# Altium footprint library F主板_V0.PcbLib: 63 footprints (part 3 of 4)
Each footprint in its own frame and in the unit in brackets; x right, y up, seen from the top. Pads: shape width x height; smd on the part's side, far side on the other; paste and mask are expansions set on the pad; w line width, h text height; cw(c..) or ccw(c..) is an arc to the next point about the centre after c.
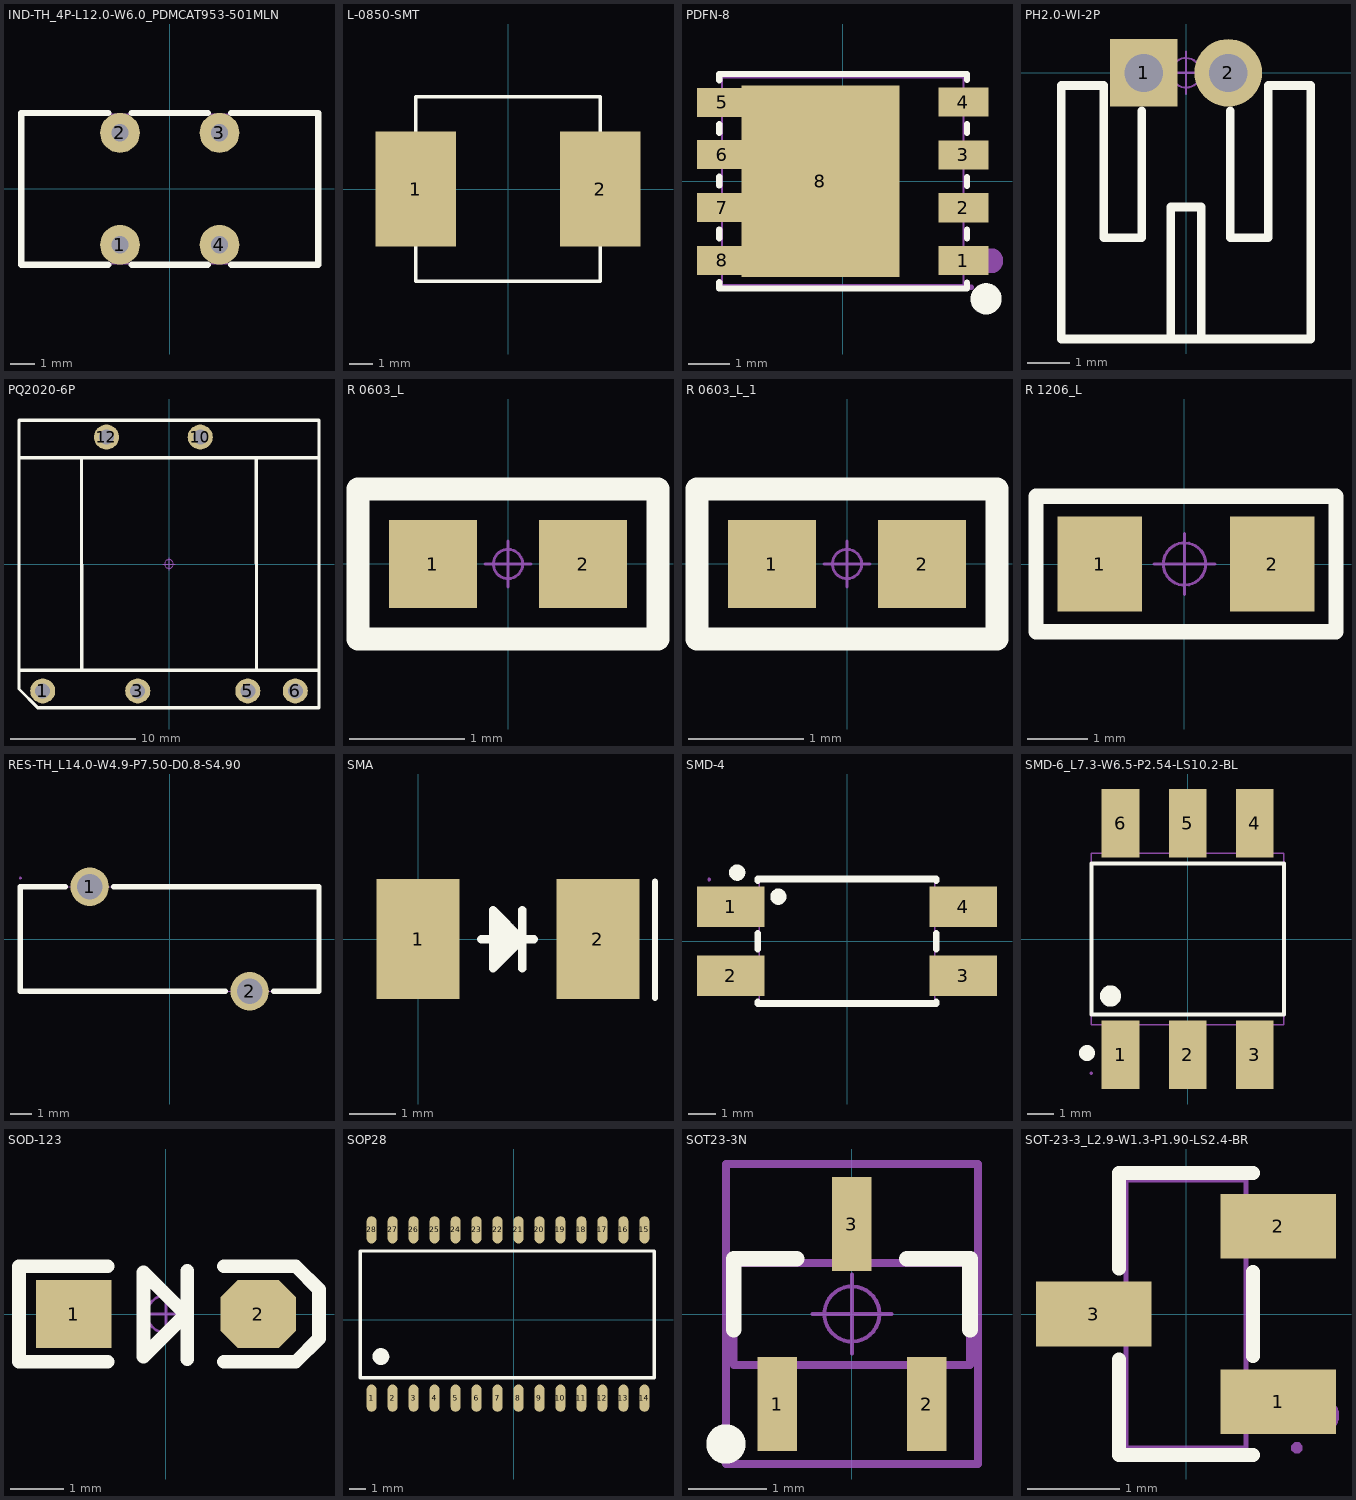
[diagram p2: the footprints below, top view; thin cyan lines are the x and y axes]

## IND-TH_4P-L12.0-W6.0_PDMCAT953-501MLN [mm]
pads (4):
  round 1.6 hole 0.7: 1(-2,-2.25) 2(-2,2.25) 3(2,2.25) 4(2,-2.25)
Top Overlay:
  lines w0.254: -2.477,-3.048 -5.969,-3.048 -5.969,3.048 -2.477,3.048 ; -1.523,-3.048 1.523,-3.048 ; -1.523,3.048 1.523,3.048 ; 2.477,-3.048 5.969,-3.048 5.969,3.048 2.477,3.048
Mechanical 15:
  region: -1.75,-2.25 -1.75,-2.201 -1.789,-2.109 -1.859,-2.04 -1.951,-2.002 -2.049,-2.002 -2.141,-2.04 -2.211,-2.109 -2.25,-2.201 -2.25,-2.25 -2.25,-2.3 -2.211,-2.391 -2.141,-2.461 -2.049,-2.498 -1.95,-2.498 -1.859,-2.46 -1.789,-2.391 -1.75,-2.299
  region: -1.75,2.25 -1.75,2.299 -1.789,2.391 -1.859,2.46 -1.951,2.498 -2.049,2.498 -2.141,2.46 -2.211,2.391 -2.25,2.299 -2.25,2.25 -2.25,2.2 -2.211,2.109 -2.141,2.039 -2.049,2.002 -1.95,2.002 -1.859,2.039 -1.789,2.109 -1.75,2.2
  region: 2.25,2.25 2.25,2.299 2.211,2.391 2.141,2.46 2.049,2.498 1.95,2.498 1.859,2.46 1.789,2.391 1.75,2.299 1.75,2.25 1.75,2.2 1.789,2.109 1.859,2.039 1.951,2.002 2.05,2.002 2.141,2.039 2.211,2.109 2.25,2.2
  region: 2.25,-2.25 2.25,-2.201 2.211,-2.109 2.141,-2.04 2.049,-2.002 1.95,-2.002 1.859,-2.04 1.789,-2.109 1.75,-2.201 1.75,-2.25 1.75,-2.3 1.789,-2.391 1.859,-2.461 1.951,-2.498 2.05,-2.498 2.141,-2.46 2.211,-2.391 2.25,-2.299
  region: -5.94,-3 -5.94,-2.975 -5.975,-2.94 -6.025,-2.94 -6.06,-2.975 -6.06,-3 -6.06,-3.025 -6.025,-3.06 -5.975,-3.06 -5.94,-3.025
  lines w0.051: -6,-3 6,-3 6,3 -6,3 -6,-3

## L-0850-SMT [mm]
pads (2):
  rect 3.5x5 smd: 1(-4,0) 2(4,0)
Top Overlay:
  lines w0.15: -4,-4 4,-4 4,4 -4,4 -4,-4

## PDFN-8 [mm]
pads (9):
  rect 1.2x0.7 smd paste-100 mask+0.05: 1(2.9,-1.905) 2(2.9,-0.635) 3(2.9,0.635) 4(2.9,1.905) 5(-2.9,1.9) 6(-2.9,0.64) 7(-2.9,-0.63) 8(-2.9,-1.9)
  rect 3.8x4.6 smd paste-100 mask+0.05: 8(-0.54,0)
Top Overlay:
  lines w0.15: -2.97,-2.58 2.99,-2.58 2.99,-2.434 ; -2.97,-2.57 -2.97,-2.429 ; -2.97,-1.371 -2.97,-1.159 ; -2.97,-0.101 -2.97,0.111 ; -2.97,1.169 -2.97,1.371 ; -2.97,2.429 -2.97,2.58 -2.94,2.58 2.99,2.58 2.99,2.434 ; 2.99,-1.376 2.99,-1.164 ; 2.99,-0.106 2.99,0.106 ; 2.99,1.164 2.99,1.376
  lines w0.5: 3.447,-2.95 cw(c3.449,-2.826) 3.45,-2.95
Top Paste:
  region: 2.3,1.555 2.3,2.255 3.5,2.255 3.5,1.555
  region: 2.3,0.285 2.3,0.985 3.5,0.985 3.5,0.285
  region: 2.3,-0.985 2.3,-0.285 3.5,-0.285 3.5,-0.985
  region: 2.3,-2.255 2.3,-1.555 3.5,-1.555 3.5,-2.255
  region: -3.501,-2.252 -3.501,-1.552 -2.438,-1.552 -2.438,-0.979 -3.501,-0.979 -3.501,-0.283 -2.443,-0.283 -2.443,0.289 -3.504,0.289 -3.504,0.994 -2.439,0.994 -2.439,1.546 -3.501,1.546 -3.501,2.243 -2.302,2.243 -2.302,2.301 1.356,2.301 1.356,-2.299 -2.25,-2.299 -2.25,-2.258 -2.268,-2.258
Mechanical 6:
  circle w0.3: c3.56,-1.91 r0.15
Mechanical 15:
  region: 2.45,1.695 2.45,2.115 3.05,2.115 3.05,1.695
  region: 2.45,0.425 2.45,0.845 3.05,0.845 3.05,0.425
  region: 2.45,-0.845 2.45,-0.425 3.05,-0.425 3.05,-0.845
  region: 2.45,-2.115 2.45,-1.695 3.05,-1.695 3.05,-2.115
  region: -2.3,-1.69 -2.3,-2.11 -3.05,-2.11 -3.05,-1.69
  region: -2.35,-2 -2.35,2 1.05,2 1.05,-2
  region: -2.3,-0.42 -2.3,-0.84 -3.05,-0.84 -3.05,-0.42
  region: -2.3,0.85 -2.3,0.43 -3.05,0.43 -3.05,0.85
  region: -2.3,2.11 -2.3,1.69 -3.05,1.69 -3.05,2.11
  region: 3.094,-2.49 3.069,-2.49 3.034,-2.525 3.034,-2.575 3.069,-2.61 3.094,-2.61 3.119,-2.61 3.154,-2.575 3.154,-2.525 3.119,-2.49
  lines w0.051: -2.9,-2.5 -2.9,2.5 2.9,2.5 2.9,-2.5 -2.9,-2.5

## PH2.0-WI-2P [mm] "长：5.9mm，宽：6mm，高：4.7mm"
height 10
pads (2):
  rect 1.6x1.6 hole 0.9: 1(-1,0)
  round 1.6 hole 0.9: 2(1,0)
Top Overlay:
  lines w0.203: -1.05,-0.9 -1.05,-3.9 -1.95,-3.9 -1.95,-3.3 -1.95,-0.3 -2,-0.3 -2.95,-0.3 -2.95,-6.3 2.95,-6.3 2.95,-0.3 2,-0.3 1.95,-0.3 1.95,-3.3 1.95,-3.9 1.05,-3.9 1.05,-0.9 ; -0.365,-6.215 -0.365,-3.175 0.365,-3.175 0.365,-6.215
Mechanical 15:
  circle w0.05: c0,0 r0.35
  lines w0.05: -0.5,0 0.5,0 ; 0,-0.5 0,0.5
3D body "PH2.0-WI-2P.STEP": height 4.75, standoff -2.65, extent -2.95,-6.3 2.95,0.3

## PQ2020-6P [mm] "高21mm，脚距2.5mm/3.8mm，"
height 0.5
pads (6):
  round 2 hole 1.2: 1(-10.1,-10.15) 3(-2.5,-10.15) 5(6.3,-10.15) 6(10.1,-10.15) 10(2.5,10.15) 12(-5,10.15)
Top Overlay:
  lines w0.254: -12,-8.5 12,-8.5 ; -12,8.5 12,8.5 ; -7,8.5 -6.98,-8.499 ; 6.98,8.499 7,-8.5 ; -12,-10 -12,11.5 12,11.5 12,-11.5 -10.5,-11.5 -12,-10
Mechanical 15:
  circle w0.05: c0,0 r0.35
  lines w0.05: -0.5,0 0.5,0 ; 0,-0.5 0,0.5
3D body "EPC17-10 5+5.STEP": height 9.75, standoff -3.15, extent -8.75,-8.1 8.75,8.1

## R 0603_L [mil] "1/10W贴片电阻"
height 19.68
pads (2):
  rect 30x30 smd: 1(-25.59,0) 2(25.59,0)
Top Overlay:
  lines w8: -51.18,-25.59 -51.18,25.59 51.18,25.59 51.18,-25.59 -51.18,-25.59
Mechanical 15:
  circle w1: c0,0 r5
  lines w1: -7.87,0 7.87,0 ; 0,-7.87 0,7.87
3D body "R 0603.STEP": height 15.79, standoff -0.13, extent -31.49,-15.74 31.5,15.75

## R 0603_L_1 [mil] "1/10W贴片电阻"
height 19.68
pads (2):
  rect 30x30 smd: 1(-25.59,0) 2(25.59,0)
Top Overlay:
  lines w8: -51.18,-25.59 51.18,-25.59 51.18,25.59 -51.18,25.59 -51.18,-25.59
Mechanical 15:
  circle w1: c0,0 r5
  lines w1: -7.87,0 7.87,0 ; 0,-7.87 0,7.87
3D body "R 0603.STEP": height 15.79, standoff -0.13, extent -31.49,-15.74 31.5,15.75

## R 1206_L [mil] "1/4W贴片电阻"
height 19.68
pads (2):
  rect 55x62 smd: 1(-55.12,0) 2(57.09,0)
Top Overlay:
  lines w10: -96.46,-44 -96.46,44 98.43,44 98.43,-44 -96.46,-44
Mechanical 15:
  circle w1.97: c0,0 r13.78
  lines w1.97: -19.68,0 19.68,0 ; 0,-19.68 0,19.68
3D body "R 1206.STEP": height 21.69, standoff -0.24, extent -62.99,-31.49 63,31.5

## RES-TH_L14.0-W4.9-P7.50-D0.8-S4.90 [mm]
pads (2):
  round 1.8 hole 1.2: 1(-3.75,2.45) 2(3.75,-2.45)
Top Overlay:
  lines w0.254: -4.881,2.45 -7,2.45 -7,-2.45 2.619,-2.45 ; -2.619,2.45 7,2.45 7,-2.45 4.881,-2.45
Mechanical 15:
  region: -6.94,2.85 -6.94,2.875 -6.975,2.91 -7.025,2.91 -7.06,2.875 -7.06,2.85 -7.06,2.825 -7.025,2.79 -6.975,2.79 -6.94,2.825
  region: -3.35,2.45 -3.35,2.53 -3.411,2.677 -3.524,2.789 -3.671,2.85 -3.83,2.85 -3.977,2.789 -4.089,2.677 -4.15,2.53 -4.15,2.45 -4.15,2.37 -4.089,2.223 -3.977,2.111 -3.83,2.05 -3.67,2.05 -3.523,2.111 -3.411,2.223 -3.35,2.371
  region: 4.15,-2.45 4.15,-2.371 4.089,-2.223 3.977,-2.111 3.83,-2.05 3.67,-2.05 3.523,-2.111 3.411,-2.224 3.35,-2.371 3.35,-2.45 3.35,-2.53 3.411,-2.677 3.523,-2.789 3.67,-2.85 3.83,-2.85 3.977,-2.789 4.089,-2.677 4.15,-2.53
  lines w0.051: -7,-2.45 -7,2.45 7,2.45 7,-2.45 -7,-2.45

## SMA [mm]
height 0.5
pads (2):
  rect 1.8x2.6 smd: 1(0,0) 2(3.9,0)
Top Overlay:
  lines w0.127: 5.136,-1.282 5.136,1.243
  lines w0.178: 1.369,-0.007 1.623,-0.007 ; 1.75,-0.515 1.75,0.501 ; 1.877,-0.388 1.877,0.374 ; 2.004,-0.261 2.004,0.247 ; 2.131,-0.134 2.131,0.12 ; 2.258,-0.642 2.258,0.628 ; 2.512,-0.007 2.258,-0.007 ; 2.258,-0.007 1.623,-0.642 1.623,0.628 2.258,-0.007

## SMD-4 [mm]
pads (4):
  rect 2.5x1.5 smd: 1(-4.3,1.27) 2(-4.3,-1.27) 3(4.3,-1.27) 4(4.3,1.27)
Top Overlay:
  circle w0.3: c-2.54,1.651 r0.15
  circle w0.3: c-4.064,2.54 r0.15
  lines w0.254: -3.3,-2.251 -3.3,-2.3 3.3,-2.3 3.3,-2.251 ; -3.3,-0.289 -3.3,0.289 ; -3.3,2.251 -3.3,2.3 3.3,2.3 3.3,2.251 ; 3.3,-0.289 3.3,0.289
Mechanical 6:
  circle w0.6: c-4.572,1.27 r0.3
Mechanical 15:
  region: -3.15,-0.67 -3.15,-1.87 -4.11,-1.87 -4.11,-0.67
  region: -3.15,1.87 -3.15,0.67 -4.11,0.67 -4.11,1.87
  region: 3.15,-1.87 3.15,-0.67 4.11,-0.67 4.11,-1.87
  region: -4.1,-0.67 -4.1,-1.87 -5.1,-1.87 -5.1,-0.67
  region: -4.1,1.87 -4.1,0.67 -5.1,0.67 -5.1,1.87
  region: 3.15,0.67 3.15,1.87 4.11,1.87 4.11,0.67
  region: 4.1,0.67 4.1,1.87 5.1,1.87 5.1,0.67
  region: 4.1,-1.87 4.1,-0.67 5.1,-0.67 5.1,-1.87
  region: -5.04,2.29 -5.04,2.315 -5.075,2.35 -5.125,2.35 -5.16,2.315 -5.16,2.29 -5.16,2.265 -5.125,2.23 -5.075,2.23 -5.04,2.265
  lines w0.051: -3.25,-2.29 -3.25,2.29 3.25,2.29 3.25,-2.29 -3.25,-2.29

## SMD-6_L7.3-W6.5-P2.54-LS10.2-BL [mm]
pads (6):
  rect 1.422x2.6 smd: 1(-2.54,-4.38) 2(0,-4.38) 3(2.54,-4.38) 4(2.54,4.38) 5(0,4.38) 6(-2.54,4.38)
Top Overlay:
  circle w0.3: c-3.81,-4.318 r0.15
  circle w0.4: c-2.921,-2.159 r0.2
  lines w0.152: -3.646,-2.851 3.646,-2.851 3.646,2.851 -3.646,2.851 -3.646,-2.851
Mechanical 6:
  circle w0.5: c-2.54,-5.08 r0.25
Mechanical 15:
  region: 1.94,4.09 1.94,3.24 3.14,3.24 3.14,4.09
  region: 1.94,5.08 1.94,4.08 3.14,4.08 3.14,5.08
  region: -0.6,4.09 -0.6,3.24 0.6,3.24 0.6,4.09
  region: -0.6,5.08 -0.6,4.08 0.6,4.08 0.6,5.08
  region: -3.14,4.09 -3.14,3.24 -1.94,3.24 -1.94,4.09
  region: -3.14,5.08 -3.14,4.08 -1.94,4.08 -1.94,5.08
  region: 1.94,-4.09 1.94,-3.24 3.14,-3.24 3.14,-4.09
  region: 1.94,-5.08 1.94,-4.08 3.14,-4.08 3.14,-5.08
  region: -0.6,-4.09 -0.6,-3.24 0.6,-3.24 0.6,-4.09
  region: -0.6,-5.08 -0.6,-4.08 0.6,-4.08 0.6,-5.08
  region: -3.14,-4.09 -3.14,-3.24 -1.94,-3.24 -1.94,-4.09
  region: -3.14,-5.08 -3.14,-4.08 -1.94,-4.08 -1.94,-5.08
  region: -3.59,-5.08 -3.591,-5.056 -3.625,-5.021 -3.674,-5.021 -3.709,-5.056 -3.71,-5.08 -3.709,-5.104 -3.674,-5.139 -3.625,-5.139 -3.591,-5.104
  lines w0.051: -3.65,-3.25 3.65,-3.25 3.65,3.25 -3.65,3.25 -3.65,-3.25

## SOD-123 [mil] "2.7x1.6X1.1mm（长宽高，不包括引脚）"
height 19.68
pads (2):
  rect 55x50 smd: 1(-67.5,0)
  oct 55x50 smd: 2(67.5,0)
Top Overlay:
  lines w10: -42.5,-35 -107.5,-35 -107.5,35 -42.5,35 ; 14,-0.8 -16.4,-31.2 -16.4,30.5 15.6,-1.5 ; 15.6,-33.1 15.6,31.7 ; 42.5,-35 95,-35 112,-18 112,18 95,35 42.5,35
Mechanical 15:
  circle w1.97: c0,0 r13.78
  lines w1.97: -19.68,0 19.68,0 ; 0,-19.68 0,19.68
3D body "SOD-123.STEP": height 48.03, standoff 0, extent -72.84,-31.5 72.83,31.5

## SOP28 [mm] "（蒜米工坊）"
height 0.5
pads (28):
  oval 0.6x1.65 smd: 1(-8.594,-4.754) 2(-7.324,-4.754) 3(-6.054,-4.754) 4(-4.784,-4.754) 5(-3.514,-4.754) 6(-2.244,-4.754) 7(-0.974,-4.754) 8(0.296,-4.754) 9(1.566,-4.754) 10(2.836,-4.754) 11(4.106,-4.754) 12(5.376,-4.754) 13(6.646,-4.754) 14(7.916,-4.754) 15(7.916,5.431) 16(6.646,5.431) 17(5.376,5.431) 18(4.106,5.431) 19(2.836,5.431) 20(1.566,5.431) 21(0.296,5.431) 22(-0.974,5.431) 23(-2.244,5.431) 24(-3.514,5.431) 25(-4.784,5.431) 26(-6.054,5.431) 27(-7.324,5.431) 28(-8.594,5.431)
Top Overlay:
  circle w0.508: c-8.035,-2.239 r0.254
  lines w0.203: -9.284,4.127 -9.284,-3.514 8.517,-3.514 8.517,4.149 -9.199,4.149
3D body "SO28.STEP": height 2.64, standoff 0, extent -9.421,-4.953 8.659,5.717

## SOT23-3N [mm] "3x1.3x1mm(长宽高)"
height 1.1
pads (3):
  rect 0.5x1.2 smd: 1(-0.95,-1.143) 2(0.95,-1.143) 3(0,1.143)
Top Overlay:
  circle w0.25: c-1.6,-1.651 r0.125
  lines w0.2: -1.501,-0.2 -1.501,0.7 -0.701,0.7 ; 0.699,0.7 1.499,0.7 1.499,-0.2
Mechanical 13:
  lines w0.1: -1.5,-0.65 1.5,-0.65 1.5,0.65 -1.5,0.65 -1.5,-0.65
Mechanical 15:
  circle w0.05: c0,0 r0.35
  lines w0.05: -0.5,0 0.5,0 ; 0,-0.5 0,0.5
  lines w0.1: -1.6,-1.905 1.6,-1.905 1.6,1.905 -1.6,1.905 -1.6,-1.905
3D body "SOT23-3.STEP": height 1.05, standoff 0, extent -1.5,-1.2 1.5,1.2

## SOT-23-3_L2.9-W1.3-P1.90-LS2.4-BR [mm]
pads (3):
  rect 1.25x0.7 smd: 1(1,-0.95) 2(1,0.95) 3(-1,0)
Top Overlay:
  lines w0.152: -0.726,-0.495 -0.726,-1.526 0.726,-1.526 ; -0.726,0.495 -0.726,1.526 0.726,1.526 ; 0.726,-0.455 0.726,0.455
Mechanical 6:
  circle w0.2: c1.46,-1.1 r0.1
Mechanical 15:
  region: 1.26,-1.45 1.259,-1.426 1.224,-1.392 1.176,-1.392 1.141,-1.426 1.14,-1.45 1.141,-1.474 1.176,-1.508 1.224,-1.508 1.259,-1.474
  region: 0.64,0.735 0.64,1.165 0.91,1.165 0.91,0.735
  region: 0.9,0.735 0.9,1.165 1.2,1.165 1.2,0.735
  region: 0.64,-1.165 0.64,-0.735 0.91,-0.735 0.91,-1.165
  region: 0.9,-1.165 0.9,-0.735 1.2,-0.735 1.2,-1.165
  region: -0.91,-0.215 -0.91,0.215 -0.64,0.215 -0.64,-0.215
  region: -1.2,-0.215 -1.2,0.215 -0.9,0.215 -0.9,-0.215
  lines w0.051: -0.65,-1.45 -0.65,1.45 0.65,1.45 0.65,-1.45 -0.65,-1.45